# EAGLE library part I__4521 (library ..SMD)
24-stage FREQUENCY DIVIDER new power gate with second VDD + VSS Source: http://www.standardics.nxp.com/products/hef/datasheet/hef4521b.pdf
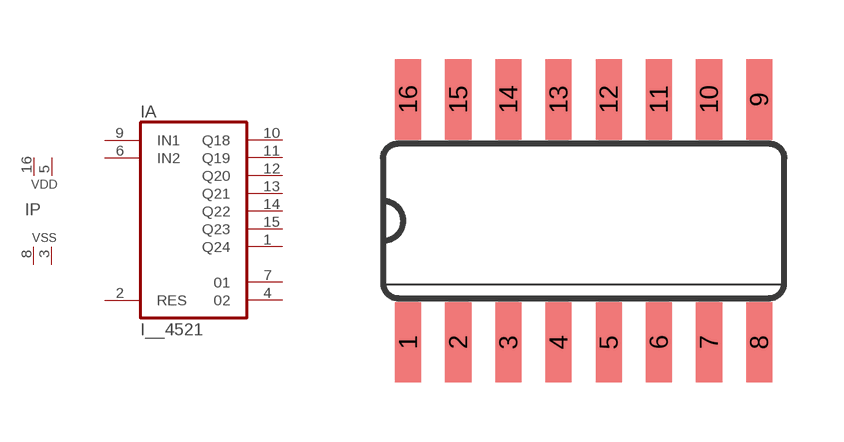
[diagram p108: symbol with the pads of SO16; footprint SO16]

Designator prefix I; gates A=4521 P=PWRN2

## I__4521D  [SO16]
1  A:Q24  out
2  A:RES  in
3  P:VSS  pwr
4  A:02  out
5  P:VDD  pwr
6  A:IN2  in
7  A:01  out
8  P:VSS  pwr
9  A:IN1  in
10  A:Q18  out
11  A:Q19  out
12  A:Q20  out
13  A:Q21  out
14  A:Q22  out
15  A:Q23  out
16  P:VDD  pwr

## Footprint SO16 (pad centres in mm)
Small Outline Package 16
smd 0.66 x 2.032: 1 -4.445,-3.073; 2 -3.175,-3.073; 3 -1.905,-3.073; 4 -0.635,-3.073; 5 0.635,-3.073; 6 1.905,-3.073; 7 3.175,-3.073; 8 4.445,-3.073; 9 4.445,3.073; 10 3.175,3.073; 11 1.905,3.073; 12 0.635,3.073; 13 -0.635,3.073; 14 -1.905,3.073; 15 -3.175,3.073; 16 -4.445,3.073